# Altium schematic symbol library lib.SchLib: 7 symbols
Pins are listed as number, name and electrical type; pins without a type are passive.

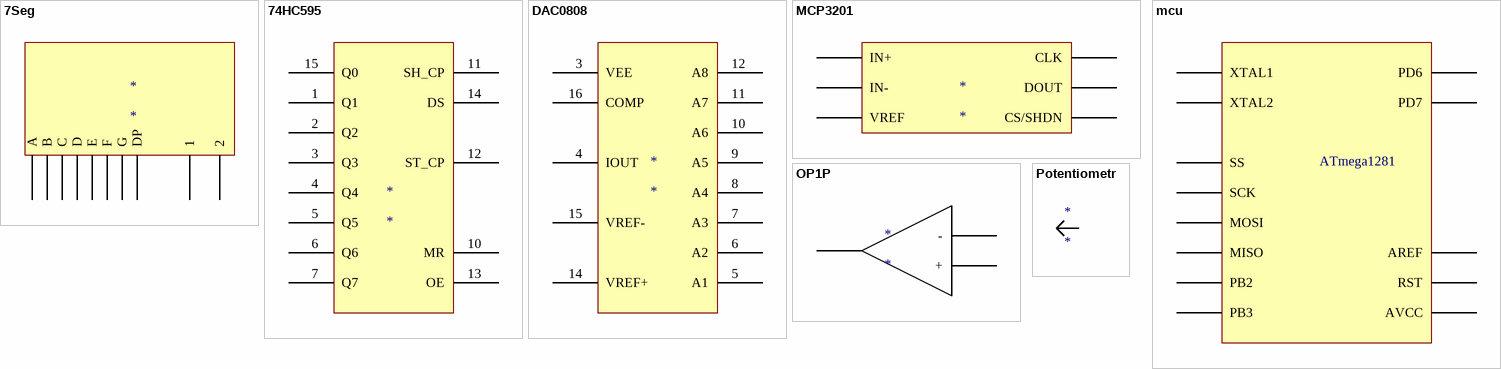
[diagram p0: symbols 7Seg to Potentiometr]

## 7Seg
designator *
pins: 35 A, 36 B, 37 C, 38 D, 39 E, 40 F, 41 G, 42 DP, 43 1, 44 2

## 74HC595
designator *
pins: 1 Q1, 2 Q2, 3 Q3, 4 Q4, 5 Q5, 6 Q6, 7 Q7, 10 MR, 11 SH_CP, 12 ST_CP, 13 OE, 14 DS, 15 Q0

## DAC0808
designator *
pins: 3 VEE, 4 IOUT, 5 A1, 6 A2, 7 A3, 8 A4, 9 A5, 10 A6, 11 A7, 12 A8, 14 VREF+, 15 VREF-, 16 COMP

## MCP3201
designator *
pins: 2 IN+, 3 IN-, 4 VREF, 15 CLK, 16 CS/SHDN, RST DOUT

## mcu
designator ATmega1281  (value not drawn)
pins: 2 SS, 3 SCK, 4 MOSI, 5 MISO, 6 PB2, 7 PB3, 8 PD6, 9 PD7, 15 AREF, 16 AVCC, 17 XTAL2, RST, XTAL1

## OP1P
designator *
pins: 31, 32 -, 33 +

## Potentiometr
designator *
pins: 34